# Altium integrated library bici_components_abby.IntLib: 49 symbols
Pins are listed as number, name and electrical type; pins without a type are passive.

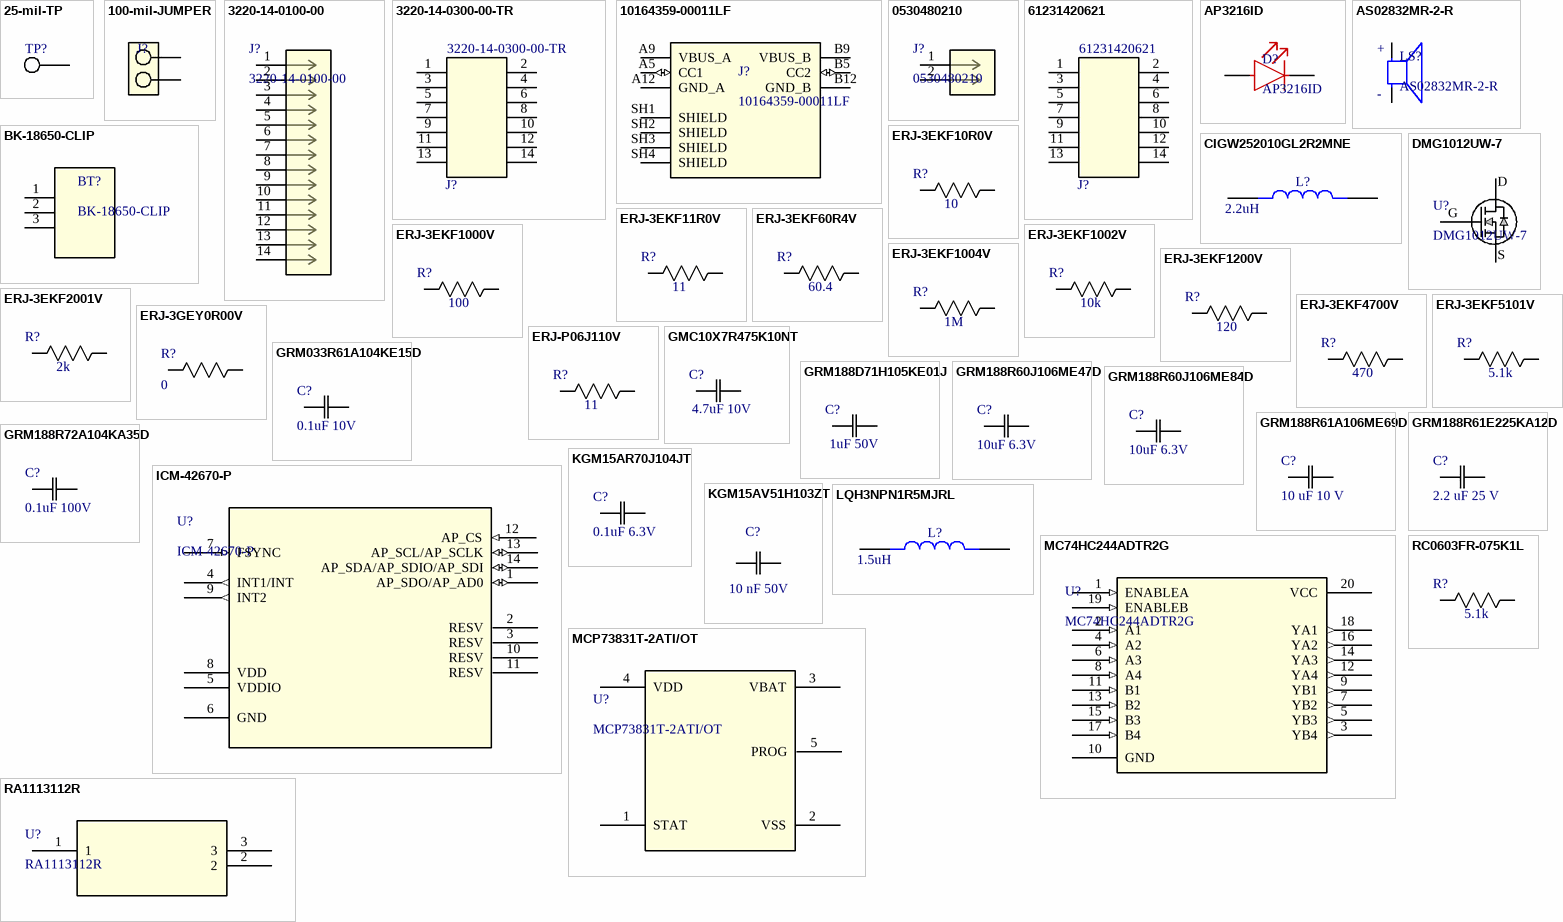
[diagram p0: symbols 25-mil-TP to RC0603FR-075K1L]

## 25-mil-TP
designator TP?  (value not drawn)  (no BOM)
footprint 25-mil-TP
pins: 1

## 100-mil-JUMPER
designator J?  (no BOM)
100 mil jumper
footprint 100MIL-JUMPER
pins: 1, 2

## 3220-14-0100-00
designator J?
CONN HEADER VERT 14POS 1.27MM; Manufacturer: CNC Tech; Vendor: DigiKey; Vendor PN: 1175-1630-ND; Manufacturer PN: 3220-14-0100-00
footprint 3220-14-0100-00
pins: 1, 2, 3, 4, 5, 6, 7, 8, 9, 10, 11, 12, 13, 14

## 3220-14-0300-00-TR
designator J?
CONN HEADER SMD 14POS 1.27MM; Manufacturer: CNC Tech; Vendor: DigiKey; Vendor PN: 1175-2644-1-ND; ComponentLink1Description: Website Link; ComponentLink1URL: https://www.we-online.com/redexpert/article/61231420621?ad; ComponentLink2Description: Datasheet Link; ComponentLink2URL: https://www.we-online.com/redexpert/spec/61231420621?ad; Manufacturer PN: 3220-14-0300-00-TR
footprint 3220-14-0300-00-TR
pins: 1, 2, 3, 4, 5, 6, 7, 8, 9, 10, 11, 12, 13, 14

## 10164359-00011LF
designator J?
USB TYPE C RECEPTACLE RIGHT ANGL; Manufacturer: Amphenol ICC (FCI); Vendor: DigiKey; Vendor PN: 609-10164359-00011LFCT-ND; Manufacturer PN: 10164359-00011LF
footprint 10164359-00011LF
pins: A5 CC1 (io), A9 VBUS_A (power), A12 GND_A (power), B5 CC2 (io), B9 VBUS_B (power), B12 GND_B (power), SH1 SHIELD, SH2 SHIELD, SH3 SHIELD, SH4 SHIELD

## 0530480210
designator J?
CONN HEADER R/A 2POS 1.25MM; Manufacturer: Molex; Vendor: DigiKey; Vendor PN: WM1742-ND; Manufacturer PN: 0530480210
footprint 0530480210
pins: 1, 2

## 61231420621
designator J?
CONN HEADER SMD 14POS 2.54MM; Manufacturer: Würth Elektronik; Vendor: DigiKey; Vendor PN: 732-61231420621CT-ND; ComponentLink1Description: Website Link; ComponentLink1URL: https://www.we-online.com/redexpert/article/61231420621?ad; ComponentLink2Description: Datasheet Link; ComponentLink2URL: https://www.we-online.com/redexpert/spec/61231420621?ad; Manufacturer PN: 61231420621
footprint 61231420621
pins: 1, 2, 3, 4, 5, 6, 7, 8, 9, 10, 11, 12, 13, 14

## AP3216ID
designator D?
LED RED DIFFUSED CHIP SMD; Manufacturer: Kingbright; Vendor: DigiKey; Vendor PN: 754-AP3216IDCT-ND; Manufacturer PN: AP3216ID; Package: 1206
footprint AP3216ID
pins: 1, 2

## AS02832MR-2-R
designator LS?
SPEAKR 32OHM 250MW TOP PORT 91DB; Manufacturer: PUI Audio, Inc.; Vendor: DigiKey; Vendor PN: 668-AS02832MR-2-R-ND; Manufacturer PN: AS02832MR-2-R
footprint speaker-solder-points
pins: N NEG, P POS
text: +; -

## BK-18650-CLIP
designator BT?
BATT CONTACT CLIP 18650 PC PIN; Manufacturer: MPD (Memory Protection Devices); Vendor: DigiKey; Vendor PN: 61-BK-18650-CLIP-ND; Manufacturer PN: BK-18650-CLIP
footprint BK-18650-CLIP
pins: 1 Pin 1, 2 Pin 2, 3 Pin 3

## CIGW252010GL2R2MNE
designator L?  value 2.2uH  (hidden comment: CIGW252010GL2R2MNE)
FIXED IND 2.2UH 2.2A 93MOHM SMD; Manufacturer: Samsung Electro-Mechanics; Vendor: DigiKey; Vendor PN: 1276-6933-1-ND; Manufacturer PN: CIGW252010GL2R2MNE; Package: 1008
footprint CIGW252010GL2R2MNE
pins: 1, 2

## DMG1012UW-7
designator U?
MOSFET N-CH 20V 1A SOT323; Manufacturer: Diodes Incorporated; Vendor: DigiKey; Vendor PN: DMG1012UW-7DICT-ND; Manufacturer PN: DMG1012UW-7; Package: SOT-323
footprint DMG1012UW-7
pins: 1 G, 2 D, 3 S

## ERJ-3EKF10R0V
designator R?  value 10  (hidden comment: ERJ-3EKF10R0V)
RES SMD 10 OHM 1% 1/10W 0603; Manufacturer: Panasonic Electronic Components; Vendor: DigiKey; Vendor PN: P10.0HCT-ND; Manufacturer PN: ERJ-3EKF10R0V; Package: 0603
footprint ERJ-3EKF10R0V
pins: 1, 2

## ERJ-3EKF11R0V
designator R?  value 11  (hidden comment: ERJ-3EKF11R0V)
RES SMD 11 OHM 1% 1/10W 0603; Manufacturer: Panasonic Electronic Components; Vendor: DigiKey; Vendor PN: P11.0HCT-ND; Manufacturer PN: ERJ-3EKF11R0V; Package: 0603
footprint ERJ-3EKF11R0V
pins: 1, 2

## ERJ-3EKF60R4V
designator R?  value 60.4  (hidden comment: ERJ-3EKF60R4V)
RES SMD 60.4 OHM 1% 1/10W 0603; Manufacturer: Panasonic Electronic Components; Vendor: DigiKey; Vendor PN: P60.4HCT-ND; Manufacturer PN: ERJ-3EKF60R4V; Package: 0603
footprint ERJ-3EKF60R4V
pins: 1, 2

## ERJ-3EKF1000V
designator R?  value 100  (hidden comment: ERJ-3EKF1000V)
RES SMD 100 OHM 1% 1/10W 0603; Manufacturer: Panasonic Electronic Components; Vendor: DigiKey; Vendor PN: P100HCT-ND; Manufacturer PN: ERJ-3EKF1000V; Package: 0603
footprint ERJ-3EKF1000V
pins: 1, 2

## ERJ-3EKF1002V
designator R?  value 10k  (hidden comment: ERJ-3EKF1002V)
RES SMD 10K OHM 1% 1/10W 0603; Manufacturer: Panasonic Electronic Components; Vendor: Mouser; Vendor PN: 667-ERJ-3EKF1002V; Manufacturer PN: ERJ-3EKF1002V; Package: 0603
footprint ERJ-3EKF1002V
pins: 1, 2

## ERJ-3EKF1004V
designator R?  value 1M  (hidden comment: ERJ-3EKF1004V)
RES SMD 1M OHM 1% 1/10W 0603; Manufacturer: Panasonic Electronic Components; Vendor: DigiKey; Vendor PN: P1.00MHCT-ND; Manufacturer PN: ERJ-3EKF1004V; Package: 0603
footprint ERJ-3EKF1004V
pins: 1, 2

## ERJ-3EKF1200V
designator R?  value 120  (hidden comment: ERJ-3EKF1200V)
RES SMD 120 OHM 1% 1/10W 0603; Manufacturer: Panasonic Electronic Components; Vendor: DigiKey; Vendor PN: P120HCT-ND; Manufacturer PN: ERJ-3EKF1200V; Package: 0603
footprint ERJ-3EKF1200V
pins: 1, 2

## ERJ-3EKF2001V
designator R?  value 2k  (hidden comment: ERJ-3EKF2001V)
RES SMD 2K OHM 1% 1/10W 0603; Manufacturer: Panasonic Electronic Components; Vendor: DigiKey; Vendor PN: P2.00KHCT-ND; Manufacturer PN: ERJ-3EKF2001V; Package: 0603
footprint ERJ-3EKF2001V
pins: 1, 2

## ERJ-3EKF4700V
designator R?  value 470  (hidden comment: ERJ-3EKF4700V)
RES SMD 470 OHM 1% 1/10W 0603; Manufacturer: Panasonic Electronic Components; Vendor: Mouser; Vendor PN: 667-ERJ-3EKF4700V; Manufacturer PN: ERJ-3EKF4700V; Package: 0603
footprint ERJ-3EKF4700V
pins: 1, 2

## ERJ-3EKF5101V
designator R?  value 5.1k  (hidden comment: ERJ-3EKF5101V)
RES SMD 5.1K OHM 1% 1/10W 0603; Manufacturer: Panasonic Electronic Components; Vendor: DigiKey; Vendor PN: P5.10KHCT-ND; Manufacturer PN: ERJ-3EKF5101V; Package: 0603
footprint ERJ-3EKF5101V
pins: 1, 2

## ERJ-3GEY0R00V
designator R?  value 0  (hidden comment: ERJ-3GEY0R00V)
RES SMD 0 OHM JUMPER 1/10W 0603; Manufacturer: Panasonic Electronic Components; Vendor: DigiKey; Vendor PN: P0.0GCT-ND; Manufacturer PN: ERJ-3GEY0R00V; Package: 0603
footprint ERJ-3GEY0R00V
pins: 1, 2

## ERJ-P06J110V
designator R?  value 11  (hidden comment: ERJ-P06J110V)
RES SMD 11 OHM 5% 1/2W 0805; Manufacturer: YAGEO; Vendor: DigiKey; Vendor PN: P11ADCT-ND; Manufacturer PN: ERJ-P06J110V; Package: 0805
footprint ERJ-P06J110V
pins: 1, 2

## GMC10X7R475K10NT
designator C?  value 4.7uF 10V  (hidden comment: GMC10X7R475K10NT)
CAP0603 X7R 4.7UF 10% 10V; Manufacturer: Cal-Chip Electronics, Inc.; Vendor: DigiKey; Vendor PN: 4713-GMC10X7R475K10NTCT-ND; Manufacturer PN: GMC10X7R475K10NT; Package: 0603
footprint GMC10X7R475K10NT
pins: 1, 2

## GRM033R61A104KE15D
designator C?  value 0.1uF 10V  (hidden comment: GRM033R61A104KE15D)
CAP CER 0.1UF 10V X5R 0201; Manufacturer: Murata Electronics; Vendor: DigiKey; Vendor PN: 490-5881-1-ND; Manufacturer PN: GRM033R61A104KE15D; Package: 0201
footprint GRM033R61A104KE15D
pins: 1, 2

## GRM188D71H105KE01J
designator C?  value 1uF 50V  (hidden comment: GRM188D71H105KE01J)
CAP CER 1UF 50V X7T 0603; Manufacturer: Murata Electronics; Vendor: DigiKey; Vendor PN: 490-GRM188D71H105KE01JCT-ND; Manufacturer PN: GRM188D71H105KE01J; Package: 0603
footprint GRM188D71H105KE01J
pins: 1, 2

## GRM188R60J106ME47D
designator C?  value 10uF 6.3V  (hidden comment: GRM188R60J106ME47D)
CAP CER 10UF 6.3V X5R 0603; Manufacturer: Murata Electronics; Vendor: DigiKey; Vendor PN: 490-3896-1-ND; Manufacturer PN: GRM188R60J106ME47D; Package: 0603
footprint GRM188R60J106ME47D
pins: 1, 2

## GRM188R60J106ME84D
designator C?  value 10uF 6.3V  (hidden comment: GRM188R60J106ME84D)
CAP CER 10UF 6.3V X5R 0603; Manufacturer: Murata Electronics; Vendor: DigiKey; Vendor PN: 490-7316-1-ND; Manufacturer PN: GRM188R60J106ME84D; Package: 0603
footprint GRM188R60J106ME84D
pins: 1, 2

## GRM188R61A106ME69D
designator C?  value 10 uF 10 V  (hidden comment: GRM188R61A106ME69D)
CAP CER 10UF 10V X5R 0603; Manufacturer: Murata Electronics; Vendor: DigiKey; Vendor PN: 490-10475-1-ND; Manufacturer PN: GRM188R61A106ME69D; Package: 0603
footprint GRM188R61A106ME69D
pins: 1, 2

## GRM188R61E225KA12D
designator C?  value 2.2 uF 25 V  (hidden comment: GRM188R61E225KA12D)
CAP CER 2.2UF 25V X5R 0603; Manufacturer: Murata Electronics; Vendor: DigiKey; Vendor PN: 490-10731-1-ND; Manufacturer PN: GRM188R61E225KA12D; Package: 0603
footprint GRM188R61E225KA12D
pins: 1, 2

## GRM188R72A104KA35D
designator C?  value 0.1uF 100V  (hidden comment: GRM188R72A104KA35D)
CAP CER 0.1UF 100V X7R 0603; Manufacturer: Murata Electronics; Vendor: DigiKey; Vendor PN: 490-3285-1-ND; Manufacturer PN: GRM188R72A104KA35D; Package: 0603
footprint GRM188R72A104KA35D
pins: 1, 2

## ICM-42670-P
designator U?
IMU ACCEL/GYRO/TEMP I2C/SPI; Manufacturer: TDK InvenSense; Vendor: Mouser; Vendor PN: 410-ICM-42670-P; Manufacturer PN: ICM-42670-P; Package: LGA-14
footprint ICM-42670-P
pins: 1 AP_SDO/AP_AD0 (io), 2 RESV, 3 RESV, 4 INT1/INT (out), 5 VDDIO (power), 6 GND (power), 7 FSYNC (in), 8 VDD (power), 9 INT2 (out), 10 RESV, 11 RESV, 12 AP_CS (in), 13 AP_SCL/AP_SCLK (io), 14 AP_SDA/AP_SDIO/AP_SDI (io)

## KGM15AR70J104JT
designator C?  value 0.1uF 6.3V  (hidden comment: KGM15AR70J104JT)
CAP CER 0.1UF 6.3V X7R 0603; Manufacturer: KYOCERA AVX; Vendor: DigiKey; Vendor PN: 478-KGM15AR70J104JTCT-ND; Manufacturer PN: KGM15AR70J104JT; Package: 0603
footprint KGM15AR70J104JT
pins: 1, 2

## KGM15AV51H103ZT
designator C?  value 10 nF 50V  (hidden comment: KGM15AV51H103ZT)
CAP CER 10000PF 50V Y5V 0603; Manufacturer: KYOCERA AVX; Vendor: DigiKey; Vendor PN: 478-KGM15AV51H103ZTCT-ND; Manufacturer PN: KGM15AV51H103ZT; Package: 0603
footprint KGM15AV51H103ZT
pins: 1, 2
1 alternate drawing of the same symbol

## LQH3NPN1R5MJRL
designator L?  value 1.5uH  (hidden comment: LQH3NPN1R5MJRL)
FIXED IND 1.5UH 1.1A 58.8MOHM SM; Manufacturer: Murata Electronics; Vendor: DigiKey; Vendor PN: 490-9576-1-ND; Manufacturer PN: LQH3NPN1R5MJRL; Package: 1212
footprint LQH3NPN1R5MJRL
pins: 1, 2

## MC74HC244ADTR2G
designator U?
IC BUFFER NON-INVERT 6V 20-TSSOP; Manufacturer: onsemi; Vendor: DigiKey; Vendor PN: MC74HC244ADTR2GOSCT-ND; Manufacturer PN: MC74HC244ADTR2G; Package: 20-TSSOP
footprint MC74HC244ADTR2G
pins: 1 ENABLEA (in), 2 A1 (in), 3 YB4 (out), 4 A2 (in), 5 YB3 (out), 6 A3 (in), 7 YB2 (out), 8 A4 (in), 9 YB1 (out), 10 GND (power), 11 B1 (in), 12 YA4 (out), 13 B2 (in), 14 YA3 (out), 15 B3 (in), 16 YA2 (out), 17 B4 (in), 18 YA1 (out), 19 ENABLEB (in), 20 VCC (power)

## MCP73831T-2ATI/OT
designator U?
IC BATT CNTL LI-ION 1CEL SOT23-5; Manufacturer: Microchip Technology; Vendor: DigiKey; Vendor PN: MCP73831T-2ATI/OTCT-ND; Manufacturer PN: MCP73831T-2ATI/OT; Package: SOT-23-5
footprint MCP73831T-2ATI/OT
pins: 1 STAT, 2 VSS, 3 VBAT, 4 VDD, 5 PROG

## RA1113112R
designator U?
SWITCH ROCKER SPST 10A 125V; Manufacturer: E-Switch; Vendor: DigiKey; Vendor PN: EG5619-ND; Manufacturer PN: RA1113112R
footprint RA1113112R
pins: 1, 2, 3

## RC0603FR-075K1L
designator R?  value 5.1k  (hidden comment: RC0603FR-075K1L)
RES 5.1K OHM 1% 1/10W 0603; Manufacturer: YAGEO; Vendor: DigiKey; Vendor PN: 311-5.10KHRCT-ND; Manufacturer PN: RC0603FR-075K1L; Package: 0603
footprint RC0603FR-075K1L
pins: 1, 2

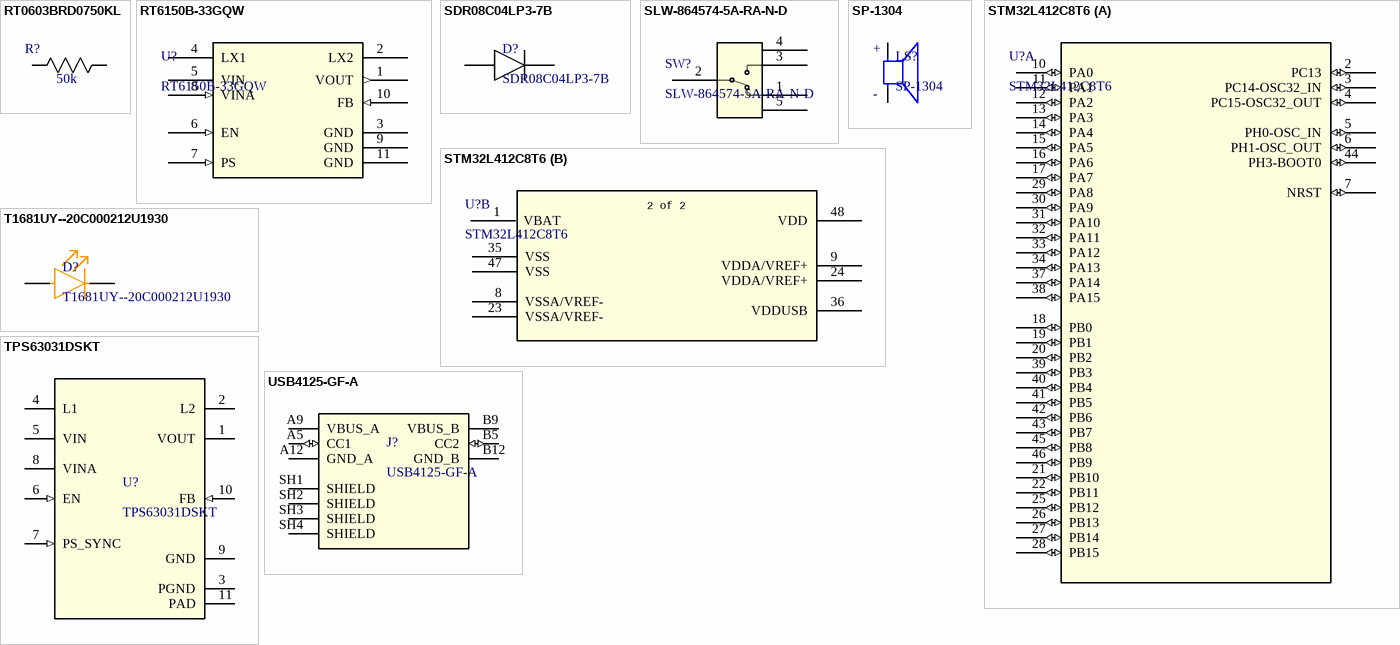
[diagram p1: symbols RT0603BRD0750KL to USB4125-GF-A]

## RT0603BRD0750KL
designator R?  value 50k  (hidden comment: RT0603BRD0750KL)
RES 50K OHM 0.1% 1/10W 0603; Manufacturer: YAGEO; Vendor: DigiKey; Vendor PN: 13-RT0603BRD0750KLCT-ND; Manufacturer PN: RT0603BRD0750KL; Package: 0603
footprint RT0603BRD0750KL
pins: 1, 2

## RT6150B-33GQW
designator U?
IC REG BCK BST 3.3V 800MA 10WDFN; Manufacturer: Richtek USA Inc.; Vendor: DigiKey; Vendor PN: RT6150B-33GQWCT-ND; Manufacturer PN: RT6150B-33GQW; Package: 10-WDFN
footprint RT6150B-33GQW
pins: 1 VOUT (out), 2 LX2, 3 GND (power), 4 LX1, 5 VIN (power), 6 EN (in), 7 PS (in), 8 VINA (in), 9 GND (power), 10 FB (in), 11 GND (power)

## SDR08C04LP3-7B
designator D?
DIODE SCHOTTK 4V 80MA X3DFN06032; Manufacturer: Diodes Incorporated; Vendor: DigiKey; Vendor PN: 31-SDR08C04LP3-7BCT-ND; Manufacturer PN: SDR08C04LP3-7B; Package: 0201
footprint SDR08C04LP3-7B
pins: 1, 2

## SLW-864574-5A-RA-N-D
designator SW?
8.6 X 4.5 X 6.2 MM, 5 MM RAISED; Manufacturer: Same Sky (Formerly CUI Devices); Vendor: DigiKey; Vendor PN: 2223-SLW-864574-5A-RA-N-D-ND; Manufacturer PN: SLW-864574-5A-RA-N-D
footprint SLW-864574-5A-RA-N-D
pins: 1, 2, 3, 4, 5

## SP-1304
designator LS?
SPEAKR 32OHM 200MW TOP PORT 88DB; Manufacturer: Soberton Inc.; Vendor: DigiKey; Vendor PN: 433-1095-ND; Manufacturer PN: SP-1304
footprint speaker-solder-points
pins: N NEG, P POS
text: +; -

## STM32L412C8T6
designator U?
IC MCU 32BIT 64KB FLASH 48LQFP; Manufacturer: STMicroelectronics; Vendor: DigiKey; Vendor PN: 497-STM32L412C8T6-ND; Manufacturer PN: STM32L412C8T6; Package: 48-LQFP
footprint STM32L412C8T6
part A pins: 2 PC13 (io), 3 PC14-OSC32_IN (io), 4 PC15-OSC32_OUT (io), 5 PH0-OSC_IN (io), 6 PH1-OSC_OUT (io), 7 NRST (io), 10 PA0 (io), 11 PA1 (io), 12 PA2 (io), 13 PA3 (io), 14 PA4 (io), 15 PA5 (io), 16 PA6 (io), 17 PA7 (io), 18 PB0 (io), 19 PB1 (io), 20 PB2 (io), 21 PB10 (io), 22 PB11 (io), 25 PB12 (io), 26 PB13 (io), 27 PB14 (io), 28 PB15 (io), 29 PA8 (io), 30 PA9 (io), 31 PA10 (io), 32 PA11 (io), 33 PA12 (io), 34 PA13 (io), 37 PA14 (io), 38 PA15 (io), 39 PB3 (io), 40 PB4 (io), 41 PB5 (io), 42 PB6 (io), 43 PB7 (io), 44 PH3-BOOT0 (io), 45 PB8 (io), 46 PB9 (io)
part B pins: 1 VBAT (power), 8 VSSA/VREF- (power), 9 VDDA/VREF+ (power), 23 VSSA/VREF- (power), 24 VDDA/VREF+ (power), 35 VSS (power), 36 VDDUSB (power), 47 VSS (power), 48 VDD (power)
part B text: 2 of 2

## T1681UY--20C000212U1930
designator D?
LED AMBER CLEAR 4PLCC SMD; Manufacturer: Harvatek Corporation; Vendor: DigiKey; Vendor PN: 3147-T1681UY--20C000212U1930CT-ND; Manufacturer PN: T1681UY--20C000212U1930; Package: 4-PLCC
footprint T1681UY--20C000212U1930
pins: 1, 2

## TPS63031DSKT
designator U?
IC REG BUCK BST 3.3V 900MA 10SON; Manufacturer: Texas Instruments; Vendor: DigiKey; Vendor PN: 296-23904-1-ND; Application_BuildNumber: *; Manufacturer PN: TPS63031DSKT; Package: 10-WFDFN
footprint TPS63031DSKT
pins: 1 VOUT (power), 2 L2, 3 PGND (power), 4 L1, 5 VIN (power), 6 EN (in), 7 PS_SYNC (in), 8 VINA (power), 9 GND (power), 10 FB (in), 11 PAD (power)

## USB4125-GF-A
designator J?
CONN RCPT TYPE C 6P SMD RA; Manufacturer: GCT; Vendor: DigiKey; Vendor PN: 2073-USB4125-GF-ACT-ND; Manufacturer PN: USB4125-GF-A
footprint USB4125-GF-A
pins: A5 CC1 (io), A9 VBUS_A (power), A12 GND_A (power), B5 CC2 (io), B9 VBUS_B (power), B12 GND_B (power), SH1 SHIELD, SH2 SHIELD, SH3 SHIELD, SH4 SHIELD